# Altium footprint library MAX349EAP-T.PcbLib: 1 footprints
Each footprint in its own frame and in the unit in brackets; x right, y up, seen from the top. Pads: shape width x height; smd on the part's side, far side on the other; paste and mask are expansions set on the pad; w line width, h text height; cw(c..) or ccw(c..) is an arc to the next point about the centre after c.
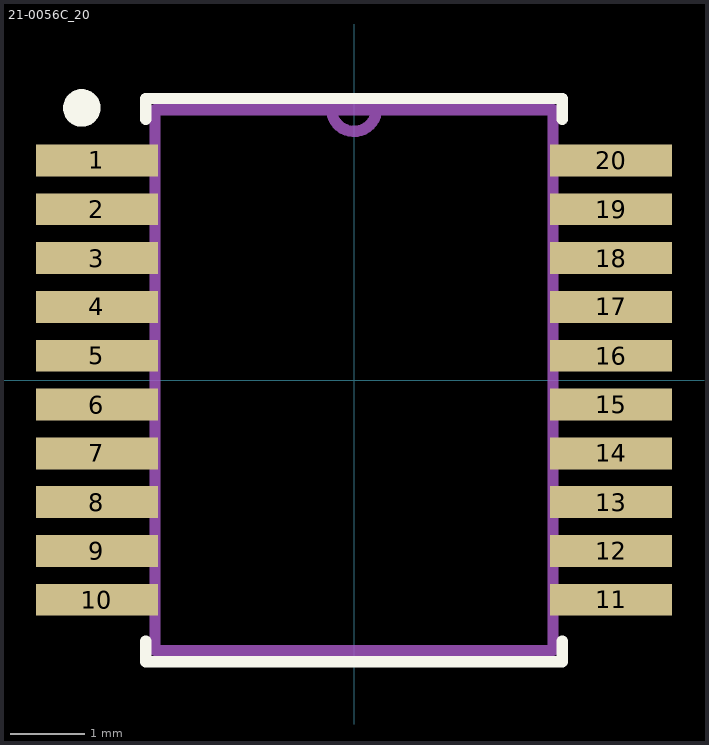
[diagram p0: the footprint, top view; thin cyan lines are the x and y axes]

## 21-0056C_20 [mil]
pads (20):
  rect 65x17 smd: 1(-137,117) 2(-137,91) 3(-137,65) 4(-137,39) 5(-137,13) 6(-137,-13) 7(-137,-39) 8(-137,-65) 9(-137,-91) 10(-137,-117) 11(137,-117) 12(137,-91) 13(137,-65) 14(137,-39) 15(137,-13) 16(137,13) 17(137,39) 18(137,65) 19(137,91) 20(137,117)
Top Overlay:
  circle w10: c-145,145 r5
  lines w6: -111,-139 -111,-150 111,-150 111,-139 ; -111,139 -111,150 111,150 111,139
Assembly Top:
  lines w6: -12,144.08 ccw(c0,144.5) 12,144.92 ; -106,-144 -106,144 -12,144 106,144 106,-144 -106,-144